# EAGLE library part DS3231MZ+ (library CDC Library v117)
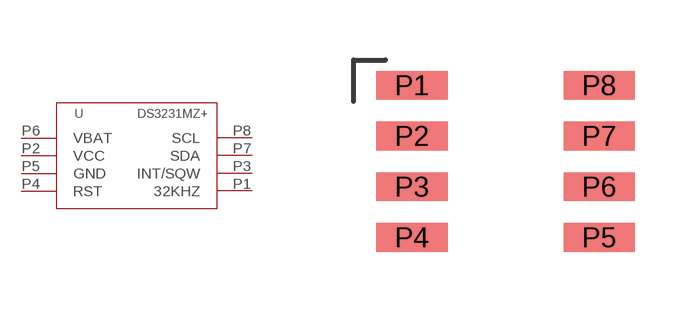
[diagram p3: symbol with the pads of DS3231MZ+_SOIC8; footprint DS3231MZ+_SOIC8]

Designator prefix -

## DS3231MZ+  [DS3231MZ+_SOIC8]
P1  32KHZ
P2  VCC  pwr
P3  INT/SQW
P4  RST
P5  GND  pwr
P6  VBAT  pwr
P7  SDA
P8  SCL

## Footprint DS3231MZ+_SOIC8 (pad centres in mm)
smd 1.78 x 0.72: P1 -2.34,1.905; P2 -2.34,0.635; P3 -2.34,-0.635; P4 -2.34,-1.905; P5 2.34,-1.905; P6 2.34,-0.635; P7 2.34,0.635; P8 2.34,1.905